# Altium schematic symbol library CGD.SchLib: 2 symbols
Pins are listed as number, name and electrical type; pins without a type are passive.

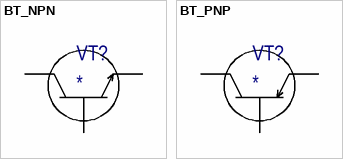
[diagram p0: symbols BT_NPN to BT_PNP]

## BT_NPN
designator VT?
pins: B, C С, E

## BT_PNP
designator VT?
pins: B, C С, E